# Altium footprint library JD102KY5P.PcbLib: 1 footprints
Each footprint in its own frame and in the unit in brackets; x right, y up, seen from the top. Pads: shape width x height; smd on the part's side, far side on the other; paste and mask are expansions set on the pad; w line width, h text height; cw(c..) or ccw(c..) is an arc to the next point about the centre after c.
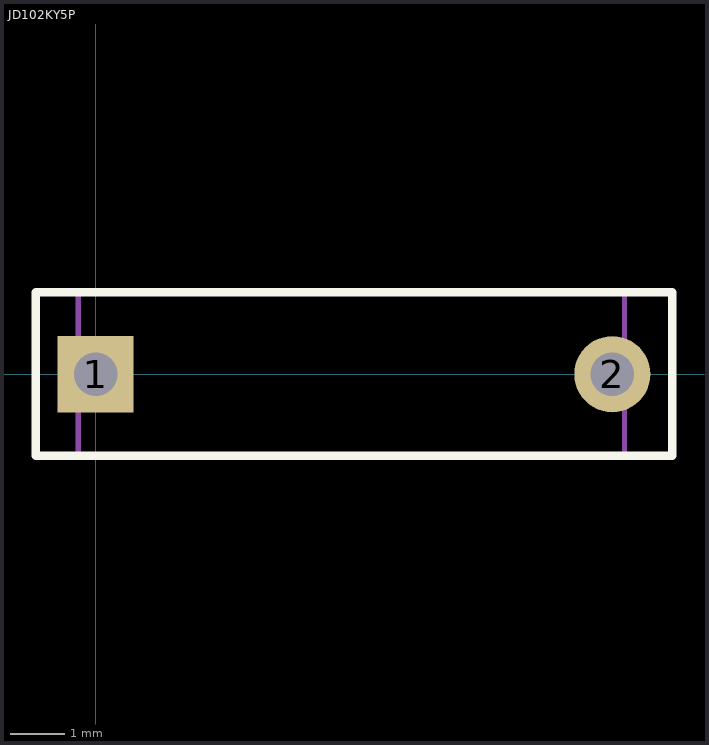
[diagram p0: the footprint, top view; thin cyan lines are the x and y axes]

## JD102KY5P [mm] "Pitch 9.5mm Body10X10mm High 7mm"
height 7
pads (2):
  rect 1.4x1.4 hole 0.8: 1(0,0)
  round 1.4 hole 0.8: 2(9.5,0)
Top Overlay:
  lines w0.152: -1.1,-1.5 -1.1,1.507 10.6,1.507 10.6,-1.5 -1.1,-1.5
Mechanical 13:
  lines w0.1: -0.324,-1.5 9.724,-1.5 9.724,1.507 -0.324,1.507 -0.324,-1.493
Mechanical 15:
  lines w0.1: -1.1,-1.5 10.6,-1.5 10.6,1.5 -1.1,1.5 -1.1,-1.5
3D body: height 2.23, standoff -10.48, extent -0.324,-1.493 9.724,1.507